# EAGLE library part BQ24171RGYR (library Battery Chargers)
Charger IC Lithium Ion/Polymer 24-VQFN (5.5x3.5) Manufacturer's datasheet <https://www.ti.com/lit/ds/symlink/bq24171.pdf?HQS=TI-null-null-digikeymode-df-pf-null-wwe&ts=1594287222945>
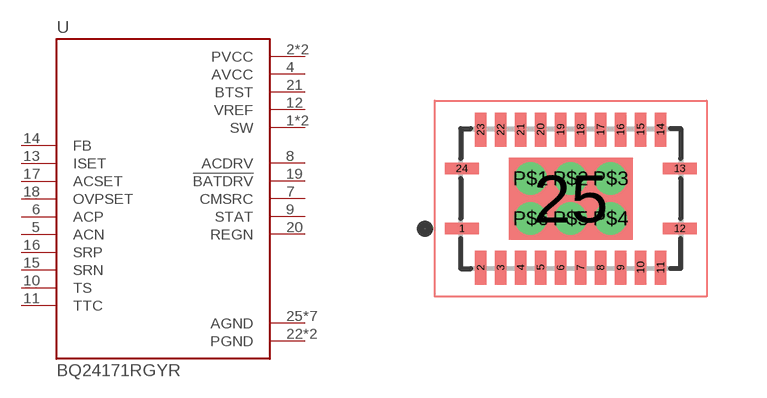
[diagram p9: symbol with the pads of BQ24171RGYR; footprint BQ24171RGYR]

Designator prefix U

## BQ24171RGYR (CREATED_BY: PCBLayout.com; DIGIKEY_PART_NUMBER: 296-41205-1-ND; MANUFACTURER: Texas Instruments; MPN: BQ24171RGYR; PACKAGE: 24-VQFN)  [BQ24171RGYR]
1  SW  pwr
2  PVCC  pwr
3  PVCC  pwr
4  AVCC  pwr
5  ACN  in
6  ACP  in
7  CMSRC  out
8  ACDRV  out
9  STAT  out
10  TS  in
11  TTC  in
12  VREF  pwr
13  ISET  in
14  FB  in
15  SRN  in
16  SRP  in
17  ACSET  in
18  OVPSET  in
19  !BATDRV  out
20  REGN  out
21  BTST  pwr
22  PGND  pwr
23  PGND  pwr
24  SW  pwr
25  AGND  pwr
P$1  AGND  pwr
P$2  AGND  pwr
P$3  AGND  pwr
P$4  AGND  pwr
P$5  AGND  pwr
P$6  AGND  pwr

## Footprint BQ24171RGYR (pad centres in mm)
smd 0.85 x 0.28: 1 -2.725,-0.75; 12 2.725,-0.75; 13 2.725,0.75; 24 -2.725,0.75
smd 0.28 x 0.85: 2 -2.25,-1.725; 3 -1.75,-1.725; 4 -1.25,-1.725; 5 -0.75,-1.725; 6 -0.25,-1.725; 7 0.25,-1.725; 8 0.75,-1.725; 9 1.25,-1.725; 10 1.75,-1.725; 11 2.25,-1.725; 14 2.25,1.725; 15 1.75,1.725; 16 1.25,1.725; 17 0.75,1.725; 18 0.25,1.725; 19 -0.25,1.725; 20 -0.75,1.725; 21 -1.25,1.725; 22 -1.75,1.725; 23 -2.25,1.725
smd 3.1 x 2.05: 25 0,0
drill 0.3 pad 0.5: P$1 -1,0.5; P$2 0,0.5; P$3 1,0.5; P$4 1,-0.5; P$5 0,-0.5; P$6 -1,-0.5